# EAGLE library part 10H (library con-harting-h)
CONNECTOR
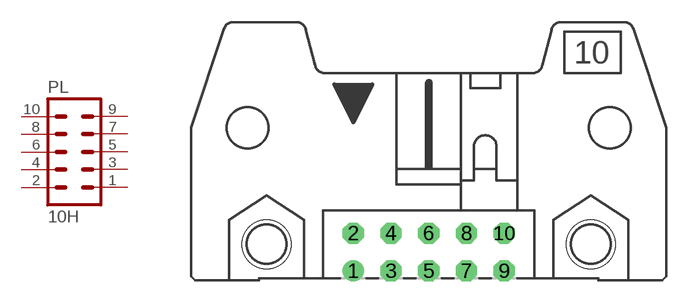
[diagram p3: symbol with the pads of 10H; footprint 10H]

Designator prefix PL

## 10H (OC_FARNELL: unknown; OC_NEWARK: unknown)  [10H]
1  1  pas
2  2  pas
3  3  pas
4  4  pas
5  5  pas
6  6  pas
7  7  pas
8  8  pas
9  9  pas
10  10  pas

## Footprint 10H (pad centres in mm)
CONNECTOR
drill 0.914: 1 -5.08,-1.27
drill 0.914 octagon: 2 -5.08,1.27; 3 -2.54,-1.27; 4 -2.54,1.27; 5 0,-1.27; 6 0,1.27; 7 2.54,-1.27; 8 2.54,1.27; 9 5.08,-1.27; 10 5.08,1.27
hole 3.302 at -10.922,0.533
hole 3.302 at 10.922,0.533